# EAGLE library part COMPASS_UI_BOARD (library AmandaEagleLibrary)
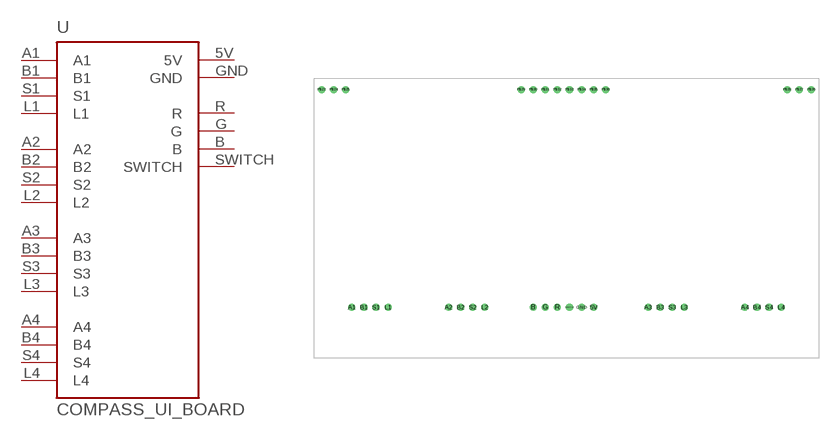
[diagram p2: symbol with the pads of COMPASS_UI_BOARD; footprint COMPASS_UI_BOARD]

Designator prefix -

## COMPASS_UI_BOARD-TH  [COMPASS_UI_BOARD]
5V  5V
A1  A1
A2  A2
A3  A3
A4  A4
B  B
B1  B1
B2  B2
B3  B3
B4  B4
G  G
GND  GND
L1  L1
L2  L2
L3  L3
L4  L4
R  R
S1  S1
S2  S2
S3  S3
S4  S4
SWITCH  SWITCH

## Footprint COMPASS_UI_BOARD (pad centres in mm)
drill 0.991: 5V 58.42,10.16; A1 7.62,10.16; A2 27.94,10.16; A3 69.85,10.16; A4 90.17,10.16; B 45.72,10.16; B1 10.16,10.16; B2 30.48,10.16; B3 72.39,10.16; B4 92.71,10.16; G 48.26,10.16; GND 55.88,10.16; L1 15.24,10.16; L2 35.56,10.16; L3 77.47,10.16; L4 97.79,10.16; P$23 1.27,55.88; P$24 3.81,55.88; P$25 6.35,55.88; P$26 104.14,55.88; P$27 101.6,55.88; P$28 99.06,55.88; P$29 43.18,55.88; P$30 45.72,55.88; P$31 48.26,55.88; P$32 50.8,55.88; P$33 53.34,55.88; P$34 55.88,55.88; P$35 58.42,55.88; P$36 60.96,55.88; R 50.8,10.16; S1 12.7,10.16; S2 33.02,10.16; S3 74.93,10.16; S4 95.25,10.16; SWITCH 53.34,10.16